# Altium schematic symbol library Schlib1.SchLib: 46 symbols
Pins are listed as number, name and electrical type; pins without a type are passive.

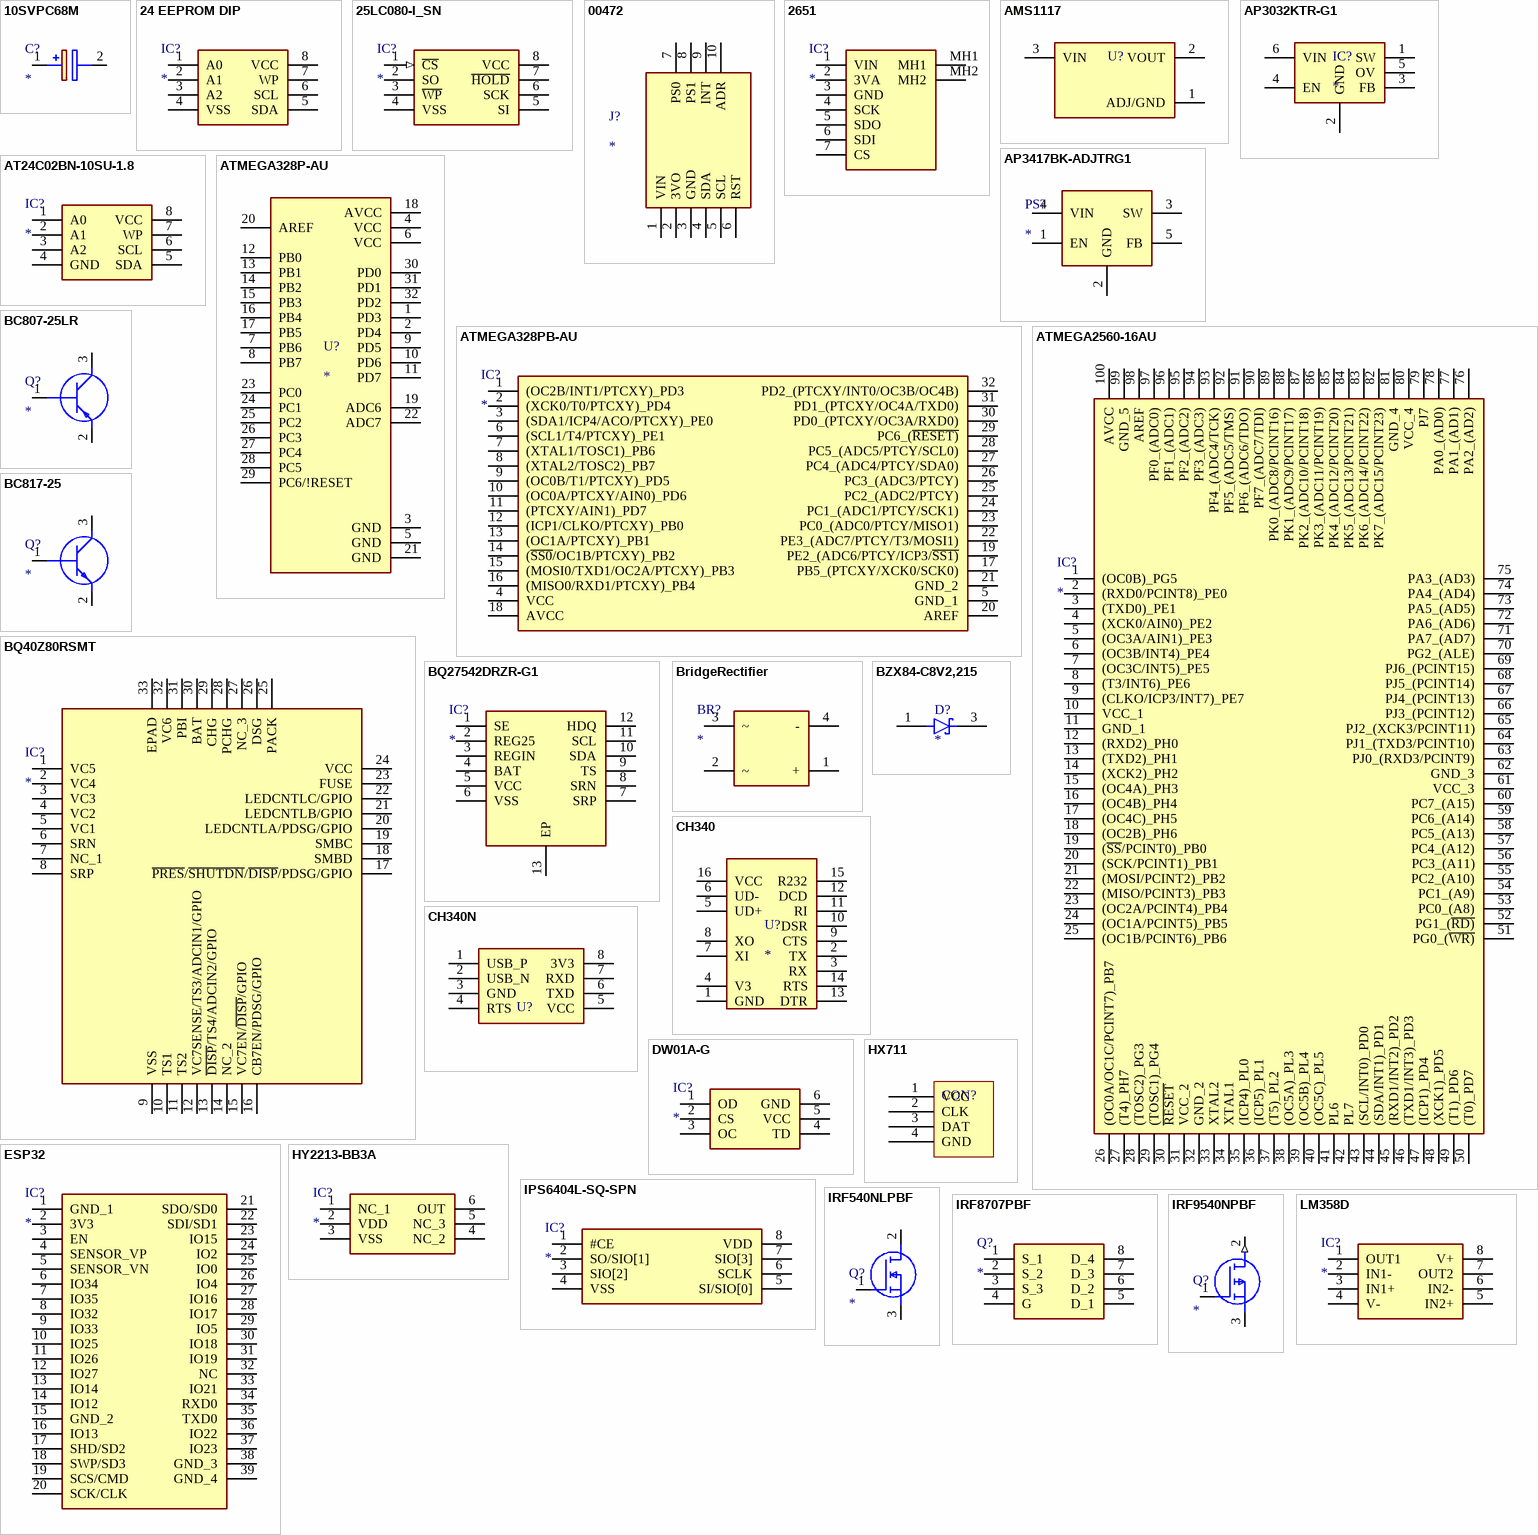
[diagram p0: symbols 10SVPC68M to LM358D]

## 10SVPC68M
designator C?
Capacitor Polarised; Manufacturer_Name: Panasonic; Manufacturer_Part_Number: 10SVPC68M; Datasheet Link: http://industrial.panasonic.com/cdbs/www-data/pdf/AAB8000/AAB8000C256.pdf; Height: 6mm; Mouser Part Number: 667-10SVPC68M; Mouser Price/Stock: https://www.mouser.com/Search/Refine.aspx?Keyword=667-10SVPC68M
footprint 16SVF82M
pins: 1 +, 2 -

## 24 EEPROM DIP
designator IC?
Integrated Circuit; Manufacturer_Name: Microchip; Manufacturer_Part_Number: 24AA025-I/P; Datasheet Link: http://ww1.microchip.com/downloads/en/DeviceDoc/21210N.pdf; Height: 5.334mm; Mouser Part Number: 579-24AA025-I/P; Mouser Price/Stock: https://www.mouser.com/Search/Refine.aspx?Keyword=579-24AA025-I%2FP; Arrow Part Number: 24AA025-I/P; Arrow Price/Stock: https://www.arrow.com/en/products/24aa025-ip/microchip-technology
footprint DIP 24 EEPROM
pins: 1 A0, 2 A1, 3 A2, 4 VSS, 5 SDA, 6 SCL, 7 WP, 8 VCC

## 25LC080-I_SN
designator IC?
Integrated Circuit; Manufacturer_Name: Microchip; Manufacturer_Part_Number: 25LC080-I/SN; Datasheet Link: https://datasheet.datasheetarchive.com/originals/distributors/Datasheets-18/DSA-358581.pdf; Height: 1.75mm; Mouser Part Number: 579-25LC080-I/SN; Mouser Price/Stock: https://www.mouser.com/Search/Refine.aspx?Keyword=579-25LC080-I%2FSN; Arrow Part Number: 25LC080-I/SN; Arrow Price/Stock: https://www.arrow.com/en/products/25lc080-isn/microchip-technology?region=europe
footprint SOIC127P600X175-8N
pins: 1 ~{CS} (in), 2 SO, 3 ~{WP}, 4 VSS (power), 5 SI, 6 SCK, 7 ~{HOLD}, 8 VCC (power)

## 00472
designator J?
Connector; Manufacturer_Name: Adafruit; Manufacturer_Part_Number: 00472; Datasheet Link: https://learn.adafruit.com/downloads/pdf/adafruit-bno055-absolute-orientation-sensor.pdf; Height: 2mm
footprint 00472
pins: 1 VIN, 2 3VO, 3 GND, 4 SDA, 5 SCL, 6 RST, 7 PS0, 8 PS1, 9 INT, 10 ADR

## 2651
designator IC?
Integrated Circuit; Manufacturer_Name: Adafruit; Manufacturer_Part_Number: 2651; Datasheet Link: https://learn.adafruit.com/downloads/pdf/adafruit-bmp280-barometric-pressure-plus-temperature-sensor-breakout.pdf; Height: 3mm; Mouser Part Number: 485-2651; Mouser Price/Stock: https://www.mouser.co.uk/ProductDetail/Adafruit/2651?qs=GP1oqPAcsMG0HimHwVa7aA%3D%3D; Arrow Part Number: 2651; Arrow Price/Stock: https://www.arrow.com/en/products/2651/adafruit-industries?region=nac
footprint 2651
pins: 1 VIN, 2 3VA, 3 GND, 4 SCK, 5 SDO, 6 SDI, 7 CS, MH1, MH2

## AMS1117
designator U?
MP: AMS1117; MF: Seeed Technology; Availability: Unavailable; SnapEDA_Link: https://www.snapeda.com/parts/AMS1117/Seeed%20Technology%20Co.%2C%20Ltd/view-part/184428/?ref=snap; Price: None; Value: *; Package: SOT-223 Seeed Technology
footprint AMS1117_SOT223
pins: 1 ADJ/GND (power), 2 VOUT, 3 VIN

## AP3032KTR-G1
designator IC?
Integrated Circuit; Manufacturer_Name: Diodes Inc.; Manufacturer_Part_Number: AP3032KTR-G1; Datasheet Link: https://www.diodes.com/assets/Datasheets/AP3032.pdf; Height: 1.45mm; Mouser Part Number: 621-AP3032KTR-G1; Mouser Price/Stock: https://www.mouser.co.uk/ProductDetail/Diodes-Incorporated/AP3032KTR-G1?qs=x6A8l6qLYDBKP%252BiASla%2FZw%3D%3D; Arrow Part Number: AP3032KTR-G1; Arrow Price/Stock: https://www.arrow.com/en/products/ap3032ktr-g1/diodes-incorporated?region=nac
footprint SOT95P280X145-6N
pins: 1 SW, 2 GND, 3 FB, 4 EN, 5 OV, 6 VIN

## AP3417BK-ADJTRG1
designator PS?
Power Supply; Manufacturer_Name: Diodes Inc.; Manufacturer_Part_Number: AP3417BK-ADJTRG1; Datasheet Link: https://www.diodes.com/assets/Datasheets/AP3417B.pdf; Height: 1.45mm; Mouser Part Number: 621-AP3417BK-ADJTRG1; Mouser Price/Stock: https://www.mouser.com/Search/Refine.aspx?Keyword=621-AP3417BK-ADJTRG1; Arrow Part Number: AP3417BK-ADJTRG1; Arrow Price/Stock: https://www.arrow.com/en/products/ap3417bk-adjtrg1/diodes-incorporated
footprint SOT BUCK
pins: 1 EN, 2 GND, 3 SW, 4 VIN, 5 FB

## AT24C02BN-10SU-1.8
designator IC?
Integrated Circuit; Manufacturer_Name: Microchip; Manufacturer_Part_Number: AT24C02BN-10SU-1.8; Datasheet Link: https://ww1.microchip.com/downloads/en/DeviceDoc/doc5126.pdf; Height: 1.75mm; Mouser Part Number: N/A; Mouser Price/Stock: https://www.mouser.com/Search/Refine.aspx?Keyword=N%2FA
footprint SOIC127P600X175-8N
pins: 1 A0, 2 A1, 3 A2, 4 GND, 5 SDA, 6 SCL, 7 WP, 8 VCC

## ATMEGA328P-AU
designator U?
MP: ATMEGA328P-AU; MF: Microchip Technology; Availability: Unavailable; Package: TQFP-32 Microchip Technology; Value: *; Price: None; SnapEDA_Link: https://www.snapeda.com/parts/ATMEGA328P-AU/Microchip/view-part/4593405/?ref=snap
footprint 328p-au
pins: 1 PD3, 2 PD4, 3 GND (power), 4 VCC (power), 5 GND (power), 6 VCC (power), 7 PB6, 8 PB7, 9 PD5, 10 PD6, 11 PD7, 12 PB0, 13 PB1, 14 PB2, 15 PB3, 16 PB4, 17 PB5, 18 AVCC (power), 19 ADC6, 20 AREF, 21 GND (power), 22 ADC7, 23 PC0, 24 PC1, 25 PC2, 26 PC3, 27 PC4, 28 PC5, 29 PC6/!RESET, 30 PD0, 31 PD1, 32 PD2

## ATMEGA328PB-AU
designator IC?
Integrated Circuit; Manufacturer_Name: Microchip; Manufacturer_Part_Number: ATMEGA328PB-AU; Datasheet Link: http://www.farnell.com/datasheets/2014286.pdf; Height: 1.2mm; Mouser Part Number: 556-ATMEGA328PB-AU; Mouser Price/Stock: https://www.mouser.co.uk/ProductDetail/Microchip-Technology-Atmel/ATMEGA328PB-AU?qs=jy4bLUHv09hbFONgGrqPbw%3D%3D; Arrow Part Number: ATMEGA328PB-AU; Arrow Price/Stock: https://www.arrow.com/en/products/atmega328pb-au/microchip-technology
footprint 328PB-AU
pins: 1 (OC2B/INT1/PTCXY)_PD3, 2 (XCK0/T0/PTCXY)_PD4, 3 (SDA1/ICP4/ACO/PTCXY)_PE0, 4 VCC, 5 GND_1, 6 (SCL1/T4/PTCXY)_PE1, 7 (XTAL1/TOSC1)_PB6, 8 (XTAL2/TOSC2)_PB7, 9 (OC0B/T1/PTCXY)_PD5, 10 (OC0A/PTCXY/AIN0)_PD6, 11 (PTCXY/AIN1)_PD7, 12 (ICP1/CLKO/PTCXY)_PB0, 13 (OC1A/PTCXY)_PB1, 14 (~{SS0}/OC1B/PTCXY)_PB2, 15 (MOSI0/TXD1/OC2A/PTCXY)_PB3, 16 (MISO0/RXD1/PTCXY)_PB4, 17 PB5_(PTCXY/XCK0/SCK0), 18 AVCC, 19 PE2_(ADC6/PTCY/ICP3/~{SS1)}, 20 AREF, 21 GND_2, 22 PE3_(ADC7/PTCY/T3/MOSI1), 23 PC0_(ADC0/PTCY/MISO1), 24 PC1_(ADC1/PTCY/SCK1), 25 PC2_(ADC2/PTCY), 26 PC3_(ADC3/PTCY), 27 PC4_(ADC4/PTCY/SDA0), 28 PC5_(ADC5/PTCY/SCL0), 29 PC6_(~{RESET)}, 30 PD0_(PTCXY/OC3A/RXD0), 31 PD1_(PTCXY/OC4A/TXD0), 32 PD2_(PTCXY/INT0/OC3B/OC4B)

## ATMEGA2560-16AU
designator IC?
Integrated Circuit; Manufacturer_Name: Microchip; Manufacturer_Part_Number: ATMEGA2560-16AU; Datasheet Link: http://docs-emea.rs-online.com/webdocs/0d68/0900766b80d68730.pdf; Height: 1.2mm; Mouser Part Number: 556-ATMEGA2560-16AU; Mouser Price/Stock: https://www.mouser.co.uk/ProductDetail/Microchip-Technology-Atmel/ATMEGA2560-16AU?qs=aqrrBurbvGciYmlAokFS0w%3D%3D; Arrow Part Number: ATMEGA2560-16AU; Arrow Price/Stock: https://www.arrow.com/en/products/atmega2560-16au/microchip-technology
footprint ATMEGA2560
pins: 1 (OC0B)_PG5, 2 (RXD0/PCINT8)_PE0, 3 (TXD0)_PE1, 4 (XCK0/AIN0)_PE2, 5 (OC3A/AIN1)_PE3, 6 (OC3B/INT4)_PE4, 7 (OC3C/INT5)_PE5, 8 (T3/INT6)_PE6, 9 (CLKO/ICP3/INT7)_PE7, 10 VCC_1, 11 GND_1, 12 (RXD2)_PH0, 13 (TXD2)_PH1, 14 (XCK2)_PH2, 15 (OC4A)_PH3, 16 (OC4B)_PH4, 17 (OC4C)_PH5, 18 (OC2B)_PH6, 19 (~{SS}/PCINT0)_PB0, 20 (SCK/PCINT1)_PB1, 21 (MOSI/PCINT2)_PB2, 22 (MISO/PCINT3)_PB3, 23 (OC2A/PCINT4)_PB4, 24 (OC1A/PCINT5)_PB5, 25 (OC1B/PCINT6)_PB6, 26 (OC0A/OC1C/PCINT7)_PB7, 27 (T4)_PH7, 28 (TOSC2)_PG3, 29 (TOSC1)_PG4, 30 ~{RESET}, 31 VCC_2, 32 GND_2, 33 XTAL2, 34 XTAL1, 35 (ICP4)_PL0, 36 (ICP5)_PL1, 37 (T5)_PL2, 38 (OC5A)_PL3, 39 (OC5B)_PL4, 40 (OC5C)_PL5, 41 PL6, 42 PL7, 43 (SCL/INT0)_PD0, 44 (SDA/INT1)_PD1, 45 (RXD1/INT2)_PD2, 46 (TXD1/INT3)_PD3, 47 (ICP1)_PD4, 48 (XCK1)_PD5, 49 (T1)_PD6, 50 (T0)_PD7, 51 PG0_(~{WR)}, 52 PG1_(~{RD)}, 53 PC0_(A8), 54 PC1_(A9), 55 PC2_(A10), 56 PC3_(A11), 57 PC4_(A12), 58 PC5_(A13), 59 PC6_(A14), 60 PC7_(A15), 61 VCC_3, 62 GND_3, 63 PJ0_(RXD3/PCINT9), 64 PJ1_(TXD3/PCINT10), 65 PJ2_(XCK3/PCINT11), 66 PJ3_(PCINT12), 67 PJ4_(PCINT13), 68 PJ5_(PCINT14), 69 PJ6_(PCINT15), 70 PG2_(ALE), 71 PA7_(AD7), 72 PA6_(AD6), 73 PA5_(AD5), 74 PA4_(AD4), 75 PA3_(AD3), 76 PA2_(AD2), 77 PA1_(AD1), 78 PA0_(AD0), 79 PJ7, 80 VCC_4, 81 GND_4, 82 PK7_(ADC15/PCINT23), 83 PK6_(ADC14/PCINT22), 84 PK5_(ADC13/PCINT21), 85 PK4_(ADC12/PCINT20), 86 PK3_(ADC11/PCINT19), 87 PK2_(ADC10/PCINT18), 88 PK1_(ADC9/PCINT17), 89 PK0_(ADC8/PCINT16), 90 PF7_(ADC7/TDI), 91 PF6_(ADC6/TDO), 92 PF5_(ADC5/TMS), 93 PF4_(ADC4/TCK), 94 PF3_(ADC3), 95 PF2_(ADC2), 96 PF1_(ADC1), 97 PF0_(ADC0), 98 AREF, 99 GND_5, 100 AVCC

## BC807-25LR
designator Q?
Transistor BJT PNP; Manufacturer_Name: Nexperia; Manufacturer_Part_Number: BC807-25LR; Datasheet Link: https://assets.nexperia.com/documents/data-sheet/BC807L_BC807LW.pdf; Height: 1.1mm; Mouser Part Number: 771-BC807-25LR; Mouser Price/Stock: https://www.mouser.co.uk/ProductDetail/Nexperia/BC807-25LR?qs=f9yNj16SXrKCSYJnQQBFCw%3D%3D
footprint BC807
pins: 1 B, 2 E, 3 C

## BC817-25
designator Q?
Transistor BJT NPN; Manufacturer_Name: Nexperia; Manufacturer_Part_Number: BC817-25; Datasheet Link: https://assets.nexperia.com/documents/data-sheet/BC817_BC817W_BC337.pdf; Height: 1.1mm; Mouser Part Number: N/A; Mouser Price/Stock: https://www.mouser.com/Search/Refine.aspx?Keyword=N%2FA
footprint BC817
pins: 1 B, 2 E, 3 C

## BQ40Z80RSMT
designator IC?
Integrated Circuit; Manufacturer_Name: Texas Instruments; Manufacturer_Part_Number: BQ40Z80RSMT; Datasheet Link: http://www.ti.com/lit/gpn/BQ40Z80; Height: 1mm; Mouser Part Number: 595-BQ40Z80RSMT; Mouser Price/Stock: https://www.mouser.co.uk/ProductDetail/Texas-Instruments/BQ40Z80RSMT?qs=%252BEew9%252B0nqrDHO6amwB5XZw%3D%3D; Arrow Part Number: BQ40Z80RSMT; Arrow Price/Stock: https://www.arrow.com/en/products/bq40z80rsmt/texas-instruments?region=nac
footprint QFN40P400X400X100-33N-D
pins: 1 VC5, 2 VC4, 3 VC3, 4 VC2, 5 VC1, 6 SRN, 7 NC_1, 8 SRP, 9 VSS, 10 TS1, 11 TS2, 12 VC7SENSE/TS3/ADCIN1/GPIO, 13 ~{DISP}/TS4/ADCIN2/GPIO, 14 NC_2, 15 VC7EN/~{DISP}/GPIO, 16 CB7EN/PDSG/GPIO, 17 ~{PRES}/~{SHUTDN}/~{DISP}/PDSG/GPIO, 18 SMBD, 19 SMBC, 20 LEDCNTLA/PDSG/GPIO, 21 LEDCNTLB/GPIO, 22 LEDCNTLC/GPIO, 23 FUSE, 24 VCC, 25 PACK, 26 DSG, 27 NC_3, 28 PCHG, 29 CHG, 30 BAT, 31 PBI, 32 VC6, 33 EPAD

## BQ27542DRZR-G1
designator IC?
Integrated Circuit; Manufacturer_Name: Texas Instruments; Manufacturer_Part_Number: BQ27542DRZR-G1; Datasheet Link: http://www.ti.com/lit/gpn/bq27542-g1; Height: 1mm; Mouser Part Number: 595-BQ27542DRZR-G1; Mouser Price/Stock: https://www.mouser.co.uk/ProductDetail/Texas-Instruments/BQ27542DRZR-G1?qs=zEQ6BYqA5vEwuT%2FikTzgQw%3D%3D; Arrow Part Number: BQ27542DRZR-G1; Arrow Price/Stock: https://www.arrow.com/en/products/bq27542drzr-g1/texas-instruments
footprint SON40P400X250X100-13N-D
pins: 1 SE, 2 REG25, 3 REGIN, 4 BAT, 5 VCC, 6 VSS, 7 SRP, 8 SRN, 9 TS, 10 SDA, 11 SCL, 12 HDQ, 13 EP

## BridgeRectifier
designator BR?
Bridge Rectifier; Manufacturer_Name: Comchip Technology; Manufacturer_Part_Number: GBU1502-G; Datasheet Link: http://www.comchiptech.com/admin/files/product/GBU10005-G%20Thru401984.%20GBU1010-G%20RevC.pdf; Height: 19.1mm; Mouser Part Number: 750-GBU1502-G; Mouser Price/Stock: https://www.mouser.com/Search/Refine.aspx?Keyword=750-GBU1502-G
footprint GBU15
pins: 1 +, 2 ~, 3 ~, 4 -

## BZX84-C8V2,215
designator D?
Diode; Manufacturer_Name: Nexperia; Manufacturer_Part_Number: BZX84-C8V2,215; Description: Low-power voltage regulator diodes in a small SOT23 (TO-236AB) Surface-Mounted Device (SMD) plastic package. The diodes are available in the normalized E24 +/-1 % (BZX84-A); Datasheet Link: https://assets.nexperia.com/documents/data-sheet/BZX84_SER.pdf; Height: 1.1mm; Mouser Part Number: 771-BZX84-C8V2-T/R; Mouser Price/Stock: https://www.mouser.co.uk/ProductDetail/Nexperia/BZX84-C8V2215?qs=me8TqzrmIYXZLkpOrQ6uhQ%3D%3D; Arrow Part Number: BZX84-C8V2,215; Arrow Price/Stock: https://www.arrow.com/en/products/bzx84-c8v2215/nexperia?region=europe
footprint SOT95P230X110-3N
pins: 1 A, 3 K

## CH340
designator U?
MF: Eaton; MP: CH340; Availability: Unavailable; Price: None; Package: None; Value: *; SnapEDA_Link: https://www.snapeda.com/parts/CH340/Eaton/view-part/4701946/?ref=snap
footprint ch340g-SOIC16
pins: 1 GND (power), 2 TX, 3 RX, 4 V3, 5 UD+, 6 UD-, 7 XI, 8 XO, 9 CTS, 10 DSR, 11 RI, 12 DCD, 13 DTR, 14 RTS, 15 R232, 16 VCC

## CH340N
designator U?
footprint SOIC127P600X175-8N
pins: 1 USB_P, 2 USB_N, 3 GND, 4 RTS, 5 VCC, 6 TXD, 7 RXD, 8 3V3

## DW01A-G
designator IC?
Integrated Circuit; Manufacturer_Name: Fortune Semiconductor Corporation; Manufacturer_Part_Number: DW01A-G; Datasheet Link: http://acoptex.com/uploads/DW01A.pdf; Height: 1.35mm
footprint DW01a
pins: 1 OD, 2 CS, 3 OC, 4 TD, 5 VCC, 6 GND

## ESP32
designator IC?
Integrated Circuit; Manufacturer_Name: Espressif Systems; Manufacturer_Part_Number: ESP-WROOM-32D; Datasheet Link: https://componentsearchengine.com/Datasheets/1/ESP-WROOM-32D.pdf; Height: 3.2mm; Mouser Part Number: 356-ESP-WROOM-32D; Mouser Price/Stock: https://www.mouser.co.uk/ProductDetail/Espressif-Systems/ESP-WROOM-32D?qs=MLItCLRbWsyWVKgdQMcFuQ%3D%3D
footprint ESP32
pins: 1 GND_1, 2 3V3, 3 EN, 4 SENSOR_VP, 5 SENSOR_VN, 6 IO34, 7 IO35, 8 IO32, 9 IO33, 10 IO25, 11 IO26, 12 IO27, 13 IO14, 14 IO12, 15 GND_2, 16 IO13, 17 SHD/SD2, 18 SWP/SD3, 19 SCS/CMD, 20 SCK/CLK, 21 SDO/SD0, 22 SDI/SD1, 23 IO15, 24 IO2, 25 IO0, 26 IO4, 27 IO16, 28 IO17, 29 IO5, 30 IO18, 31 IO19, 32 NC, 33 IO21, 34 RXD0, 35 TXD0, 36 IO22, 37 IO23, 38 GND_3, 39 GND_4

## HX711
designator CON?
footprint HX711
pins: 1 VCC, 2 CLK, 3 DAT, 4 GND

## HY2213-BB3A
designator IC?
Integrated Circuit; Manufacturer_Name: Hycon; Manufacturer_Part_Number: HY2213-BB3A; Datasheet Link: https://datasheet.lcsc.com/szlcsc/HYCON-Tech-HY2213-BB3A_C113632.pdf; Height: 1.4mm
footprint HY2213
pins: 1 NC_1, 2 VDD, 3 VSS, 4 NC_2, 5 NC_3, 6 OUT

## IPS6404L-SQ-SPN
designator IC?
Integrated Circuit; Manufacturer_Name: Electrodragon; Manufacturer_Part_Number: IPS6404L-SQ-SPN; Datasheet Link: https://github.com/Edragon/Datasheet/blob/master/IPUS/IPUS%2064Mbit.pdf; Height: 1.75mm
footprint SOIC127P600X175-8N
pins: 1 #CE, 2 SO/SIO[1], 3 SIO[2], 4 VSS, 5 SI/SIO[0], 6 SCLK, 7 SIO[3], 8 VDD

## IRF540NLPBF
designator Q?
MOSFET (N-Channel); Manufacturer_Name: Infineon; Manufacturer_Part_Number: IRF540NLPBF; Datasheet Link: https://www.infineon.com/dgdl/irf540nspbf.pdf?fileId=5546d462533600a4015355e3a72819a3; Height: 4.83mm; Mouser Part Number: 942-IRF540NLPBF; Mouser Price/Stock: https://www.mouser.co.uk/ProductDetail/Infineon-IR/IRF540NLPBF?qs=9%252BKlkBgLFf0FQw5bWQHS0A%3D%3D; Arrow Part Number: IRF540NLPBF; Arrow Price/Stock: https://www.arrow.com/en/products/irf540nlpbf/infineon-technologies-ag?region=europe
footprint TO254P483X1016X1501-3P
pins: 1 G, 2 D, 3 S

## IRF8707PBF
designator Q?
MOSFET (N-Channel); Manufacturer_Name: Infineon; Manufacturer_Part_Number: IRF8707PBF; Datasheet Link: https://www.infineon.com/dgdl/irf8707pbf.pdf?fileId=5546d462533600a40153560d57f81d6b; Height: 1.75mm; Mouser Part Number: 942-IRF8707PBF; Mouser Price/Stock: https://www.mouser.com/Search/Refine.aspx?Keyword=942-IRF8707PBF
footprint SOIC127P600X175-8N
pins: 1 S_1, 2 S_2, 3 S_3, 4 G, 5 D_1, 6 D_2, 7 D_3, 8 D_4

## IRF9540NPBF
designator Q?
MOSFET (P-Channel); Manufacturer_Name: Infineon; Manufacturer_Part_Number: IRF9540NPBF; Datasheet Link: https://www.infineon.com/dgdl/irf9540npbf.pdf?fileId=5546d462533600a401535611cfa21dc8; Height: 4.69mm; Mouser Part Number: 942-IRF9540NPBF; Mouser Price/Stock: https://www.mouser.co.uk/ProductDetail/Infineon-IR/IRF9540NPBF?qs=9%252BKlkBgLFf0vnuA8mxUPtw%3D%3D; Arrow Part Number: IRF9540NPBF; Arrow Price/Stock: https://www.arrow.com/en/products/irf9540npbf/infineon-technologies-ag?region=nac
footprint TO254P469X1042X1967-3P
pins: 1 G (power), 2 D (out), 3 S (power)

## LM358D
designator IC?
Integrated Circuit; Manufacturer_Name: Texas Instruments; Manufacturer_Part_Number: LM358D; Datasheet Link: http://www.ti.com/lit/ds/symlink/lm358.pdf; Height: 1.75mm; Mouser Part Number: 595-LM358D; Mouser Price/Stock: https://www.mouser.co.uk/ProductDetail/Texas-Instruments/LM358D?qs=X1HXWTtiZ0RJBM%2FvBfVo8g%3D%3D; Arrow Part Number: LM358D; Arrow Price/Stock: https://www.arrow.com/en/products/lm358d/texas-instruments?region=nac
footprint SOIC127P600X175-8N
pins: 1 OUT1, 2 IN1-, 3 IN1+, 4 V-, 5 IN2+, 6 IN2-, 7 OUT2, 8 V+

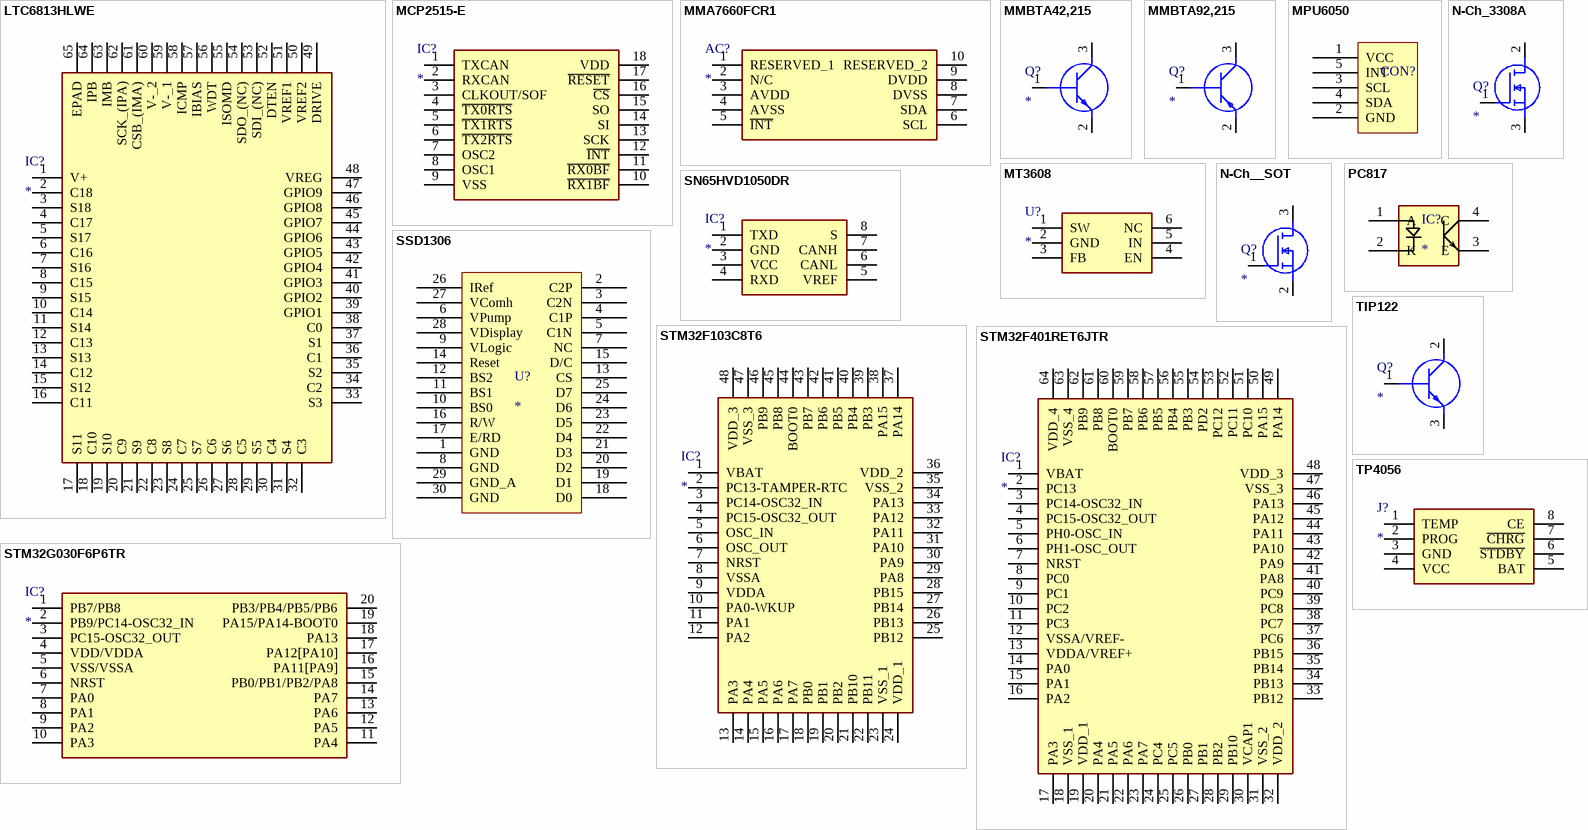
[diagram p1: symbols LTC6813HLWE to TP4056]

## LTC6813HLWE
designator IC?
Manufacturer_Name: Linear Technology; Manufacturer_Part_Number: LTC6813HLWE-1#3ZZPBF; Datasheet Link: https://www.analog.com/media/en/technical-documentation/data-sheets/LTC6813-1.pdf; Height: 1.6mm; Mouser Part Number: 584-6813HLWE13ZZPBF; Mouser Price/Stock: https://www.mouser.co.uk/ProductDetail/Analog-Devices-Linear-Technology/LTC6813HLWE-13ZZPBF?qs=lYGu3FyN48e3Qu9IYnRGuQ%3D%3D; Arrow Part Number: LTC6813HLWE-1#3ZZPBF; Arrow Price/Stock: https://www.arrow.com/en/products/ltc6813hlwe-13zzpbf/linear-technology
footprint LTC6813HLWE
pins: 1 V+, 2 C18, 3 S18, 4 C17, 5 S17, 6 C16, 7 S16, 8 C15, 9 S15, 10 C14, 11 S14, 12 C13, 13 S13, 14 C12, 15 S12, 16 C11, 17 S11, 18 C10, 19 S10, 20 C9, 21 S9, 22 C8, 23 S8, 24 C7, 25 S7, 26 C6, 27 S6, 28 C5, 29 S5, 30 C4, 31 S4, 32 C3, 33 S3, 34 C2, 35 S2, 36 C1, 37 S1, 38 C0, 39 GPIO1, 40 GPIO2, 41 GPIO3, 42 GPIO4, 43 GPIO5, 44 GPIO6, 45 GPIO7, 46 GPIO8, 47 GPIO9, 48 VREG, 49 DRIVE, 50 VREF2, 51 VREF1, 52 DTEN, 53 SDI_(NC), 54 SDO_(NC), 55 ISOMD, 56 WDT, 57 IBIAS, 58 ICMP, 59 V-_1, 60 V-_2, 61 CSB_(IMA), 62 SCK_(IPA), 63 IMB, 64 IPB, 65 EPAD

## MCP2515-E
designator IC?
Integrated Circuit; Manufacturer_Name: Microchip; Manufacturer_Part_Number: MCP2515-E/SO; Datasheet Link: http://ww1.microchip.com/downloads/en/DeviceDoc/21801G.pdf; Height: 2.65mm; Mouser Part Number: 579-MCP2515-E/SO; Mouser Price/Stock: https://www.mouser.co.uk/ProductDetail/Microchip-Technology/MCP2515-E-SO?qs=y1t9dHv1DsLUSXaU9a01fg%3D%3D; Arrow Part Number: MCP2515-E/SO; Arrow Price/Stock: https://www.arrow.com/en/products/mcp2515-eso/microchip-technology
footprint MCP2515
pins: 1 TXCAN, 2 RXCAN, 3 CLKOUT/SOF, 4 ~{TX0RTS}, 5 ~{TX1RTS}, 6 ~{TX2RTS}, 7 OSC2, 8 OSC1, 9 VSS, 10 ~{RX1BF}, 11 ~{RX0BF}, 12 ~{INT}, 13 SCK, 14 SI, 15 SO, 16 ~{CS}, 17 ~{RESET}, 18 VDD

## MMA7660FCR1
designator AC?
Accelerometer; Manufacturer_Name: NXP; Manufacturer_Part_Number: MMA7660FCR1; Datasheet Link: http://www.nxp.com/docs/en/data-sheet/MMA7660FC.pdf; Height: 1mm; Mouser Part Number: 841-MMA7660FCR1; Mouser Price/Stock: https://www.mouser.com/Search/Refine.aspx?Keyword=841-MMA7660FCR1; Arrow Part Number: MMA7660FCR1; Arrow Price/Stock: https://www.arrow.com/en/products/mma7660fcr1/nxp-semiconductors
footprint SON50P300X300X100-10N-D
pins: 1 RESERVED_1, 2 N/C, 3 AVDD, 4 AVSS, 5 ~{INT}, 6 SCL, 7 SDA, 8 DVSS, 9 DVDD, 10 RESERVED_2

## MMBTA42,215
designator Q?
Transistor BJT NPN; Manufacturer_Name: Nexperia; Manufacturer_Part_Number: MMBTA42,215; Datasheet Link: http://assets.nexperia.com/documents/data-sheet/MMBTA42.pdf; Height: 1.1mm; Mouser Part Number: 771-MMBTA42215; Mouser Price/Stock: https://www.mouser.co.uk/ProductDetail/Nexperia/MMBTA42215?qs=LOCUfHb8d9tIN%2FqE%252BOes3A%3D%3D; Arrow Part Number: MMBTA42,215; Arrow Price/Stock: https://www.arrow.com/en/products/mmbta42215/nexperia
footprint SOT95P230X110-3N
pins: 1 B, 2 E, 3 C

## MMBTA92,215
designator Q?
Transistor BJT PNP; Manufacturer_Name: Nexperia; Manufacturer_Part_Number: MMBTA92,215; Datasheet Link: http://assets.nexperia.com/documents/data-sheet/MMBTA92.pdf; Height: 1.1mm; Mouser Part Number: 771-MMBTA92215; Mouser Price/Stock: https://www.mouser.co.uk/ProductDetail/Nexperia/MMBTA92215?qs=LOCUfHb8d9sekw3BvUrXKw%3D%3D; Arrow Part Number: MMBTA92,215; Arrow Price/Stock: https://www.arrow.com/en/products/mmbta92215/nexperia?region=nac
footprint SOT95P230X110-3N
pins: 1 B, 2 E, 3 C

## MPU6050
designator CON?
footprint MPU6050
pins: 1 VCC, 2 GND, 3 SCL, 4 SDA, 5 INT

## MT3608
designator U?
Undefined or Miscellaneous; Manufacturer_Name: Aerosemi; Manufacturer_Part_Number: MT3608; Datasheet Link: https://www.olimex.com/Products/Breadboarding/BB-PWR-3608/resources/MT3608.pdf; Height: 1.45mm
footprint MT3608
pins: 1 SW, 2 GND, 3 FB, 4 EN, 5 IN, 6 NC

## N-Ch_3308A
designator Q?
MOSFET (N-Channel); Manufacturer_Name: Infineon; Manufacturer_Part_Number: IRLZ44NSTRLPBF; Datasheet Link: https://www.infineon.com/dgdl/irlz44nspbf.pdf?fileId=5546d462533600a40153567221272727; Height: 4.83mm; Mouser Part Number: 942-IRLZ44NSTRLPBF; Mouser Price/Stock: https://www.mouser.co.uk/ProductDetail/Infineon-IR/IRLZ44NSTRLPBF/?qs=9%252BKlkBgLFf1LijFJvUznEg%3D%3D; Arrow Part Number: IRLZ44NSTRLPBF; Arrow Price/Stock: https://www.arrow.com/en/products/irlz44nstrlpbf/infineon-technologies-ag
footprint DPAK_3308
pins: 1 G, 2 D, 3 S

## N-Ch__SOT
designator Q?
MOSFET (N-Channel); Manufacturer_Name: Infineon; Manufacturer_Part_Number: IRLZ44NSTRLPBF; Datasheet Link: https://www.infineon.com/dgdl/irlz44nspbf.pdf?fileId=5546d462533600a40153567221272727; Height: 4.83mm; Mouser Part Number: 942-IRLZ44NSTRLPBF; Mouser Price/Stock: https://www.mouser.co.uk/ProductDetail/Infineon-IR/IRLZ44NSTRLPBF/?qs=9%252BKlkBgLFf1LijFJvUznEg%3D%3D; Arrow Part Number: IRLZ44NSTRLPBF; Arrow Price/Stock: https://www.arrow.com/en/products/irlz44nstrlpbf/infineon-technologies-ag
footprint NCH_SOT
pins: 1 G, 2 S, 3 D

## PC817
designator IC?
Integrated Circuit; Manufacturer_Name: Galaxy; Manufacturer_Part_Number: PC817; Datasheet Link: http://www.gmesemi.com/KUpload/product/PC/PC817(G).pdf; Height: 5mm
footprint PC817
pins: 1 A, 2 K, 3 E, 4 C

## SN65HVD1050DR
designator IC?
Integrated Circuit; Manufacturer_Name: Texas Instruments; Manufacturer_Part_Number: SN65HVD1050DR; Datasheet Link: https://www.ti.com/lit/ds/symlink/sn65hvd1050.pdf?ts=1618896978538&ref_url=https%253A%252F%252Fwww.google.com%252F; Height: 1.75mm; Mouser Part Number: 595-SN65HVD1050DR; Mouser Price/Stock: https://www.mouser.co.uk/ProductDetail/Texas-Instruments/SN65HVD1050DR?qs=QViXGNcIEAt%2FPpTrdx%252Bq7g%3D%3D; Arrow Part Number: SN65HVD1050DR; Arrow Price/Stock: https://www.arrow.com/en/products/sn65hvd1050dr/texas-instruments
footprint SN65HVD1050DR
pins: 1 TXD, 2 GND, 3 VCC, 4 RXD, 5 VREF, 6 CANL, 7 CANH, 8 S

## SSD1306
designator U?
footprint SSD1306_FPC
pins: 1 GND (power), 2 C2P, 3 C2N, 4 C1P, 5 C1N, 6 VPump, 7 NC, 8 GND (power), 9 VLogic, 10 BS0, 11 BS1, 12 BS2, 13 CS, 14 Reset, 15 D/C, 16 R/W, 17 E/RD, 18 D0, 19 D1, 20 D2, 21 D3, 22 D4, 23 D5, 24 D6, 25 D7, 26 IRef, 27 VComh, 28 VDisplay, 29 GND_A (power), 30 GND (power)

## STM32F103C8T6
designator IC?
Integrated Circuit; Manufacturer_Name: STMicroelectronics; Manufacturer_Part_Number: STM32F103CBT6; Datasheet Link: http://www.st.com/st-web-ui/static/active/en/resource/technical/document/datasheet/CD00161566.pdf; Height: 1.6mm; Mouser Part Number: 511-STM32F103CBT6; Mouser Price/Stock: https://www.mouser.co.uk/ProductDetail/STMicroelectronics/STM32F103CBT6?qs=WxFF5lh7QM3goh6GV5Ogig%3D%3D; Arrow Part Number: STM32F103CBT6; Arrow Price/Stock: https://www.arrow.com/en/products/stm32f103cbt6/stmicroelectronics
footprint STM32F103C8T6
pins: 1 VBAT, 2 PC13-TAMPER-RTC, 3 PC14-OSC32_IN, 4 PC15-OSC32_OUT, 5 OSC_IN, 6 OSC_OUT, 7 NRST, 8 VSSA, 9 VDDA, 10 PA0-WKUP, 11 PA1, 12 PA2, 13 PA3, 14 PA4, 15 PA5, 16 PA6, 17 PA7, 18 PB0, 19 PB1, 20 PB2, 21 PB10, 22 PB11, 23 VSS_1, 24 VDD_1, 25 PB12, 26 PB13, 27 PB14, 28 PB15, 29 PA8, 30 PA9, 31 PA10, 32 PA11, 33 PA12, 34 PA13, 35 VSS_2, 36 VDD_2, 37 PA14, 38 PA15, 39 PB3, 40 PB4, 41 PB5, 42 PB6, 43 PB7, 44 BOOT0, 45 PB8, 46 PB9, 47 VSS_3, 48 VDD_3

## STM32F401RET6JTR
designator IC?
Integrated Circuit; Manufacturer_Name: STMicroelectronics; Manufacturer_Part_Number: STM32F401RET6JTR; Datasheet Link: https://componentsearchengine.com/Datasheets/1/STM32F401RET6JTR.pdf; Height: 1.6mm; Mouser Part Number: 511-STM32F401RET6JTR; Mouser Price/Stock: https://www.mouser.co.uk/ProductDetail/STMicroelectronics/STM32F401RET6JTR?qs=u4fy%2FsgLU9NsUyAlfgfZOA%3D%3D; Arrow Part Number: STM32F401RET6JTR; Arrow Price/Stock: https://www.arrow.com/en/products/stm32f401ret6jtr/stmicroelectronics
footprint QFP50P1200X1200X160-64N
pins: 1 VBAT, 2 PC13, 3 PC14-OSC32_IN, 4 PC15-OSC32_OUT, 5 PH0-OSC_IN, 6 PH1-OSC_OUT, 7 NRST, 8 PC0, 9 PC1, 10 PC2, 11 PC3, 12 VSSA/VREF-, 13 VDDA/VREF+, 14 PA0, 15 PA1, 16 PA2, 17 PA3, 18 VSS_1, 19 VDD_1, 20 PA4, 21 PA5, 22 PA6, 23 PA7, 24 PC4, 25 PC5, 26 PB0, 27 PB1, 28 PB2, 29 PB10, 30 VCAP1, 31 VSS_2, 32 VDD_2, 33 PB12, 34 PB13, 35 PB14, 36 PB15, 37 PC6, 38 PC7, 39 PC8, 40 PC9, 41 PA8, 42 PA9, 43 PA10, 44 PA11, 45 PA12, 46 PA13, 47 VSS_3, 48 VDD_3, 49 PA14, 50 PA15, 51 PC10, 52 PC11, 53 PC12, 54 PD2, 55 PB3, 56 PB4, 57 PB5, 58 PB6, 59 PB7, 60 BOOT0, 61 PB8, 62 PB9, 63 VSS_4, 64 VDD_4

## STM32G030F6P6TR
designator IC?
Integrated Circuit; Manufacturer_Name: STMicroelectronics; Manufacturer_Part_Number: STM32G030F6P6TR; Datasheet Link: https://www.st.com/resource/en/datasheet/stm32g030f6.pdf; Height: 1.2mm; Mouser Part Number: 511-STM32G030F6P6TR; Mouser Price/Stock: https://www.mouser.co.uk/ProductDetail/STMicroelectronics/STM32G030F6P6TR?qs=xZ%2FP%252Ba9zWqbCpBN9FNM5kA%3D%3D; Arrow Part Number: STM32G030F6P6TR; Arrow Price/Stock: https://www.arrow.com/en/products/stm32g030f6p6tr/stmicroelectronics?region=nac
footprint CLT34BT6
pins: 1 PB7/PB8, 2 PB9/PC14-OSC32_IN, 3 PC15-OSC32_OUT, 4 VDD/VDDA, 5 VSS/VSSA, 6 NRST, 7 PA0, 8 PA1, 9 PA2, 10 PA3, 11 PA4, 12 PA5, 13 PA6, 14 PA7, 15 PB0/PB1/PB2/PA8, 16 PA11[PA9], 17 PA12[PA10], 18 PA13, 19 PA15/PA14-BOOT0, 20 PB3/PB4/PB5/PB6

## TIP122
designator Q?
Transistor BJT NPN; Manufacturer_Name: STMicroelectronics; Manufacturer_Part_Number: TIP122; Datasheet Link: http://www.st.com/web/en/resource/technical/document/datasheet/CD00000911.pdf; Height: 4.6mm; Mouser Part Number: 511-TIP122; Mouser Price/Stock: https://www.mouser.co.uk/ProductDetail/STMicroelectronics/TIP122/?qs=ljbEvF4DwOPuWPwhe20bIQ%3D%3D; Arrow Part Number: TIP122; Arrow Price/Stock: https://www.arrow.com/en/products/tip122/stmicroelectronics
footprint TIP122
pins: 1 B, 2 C, 3 E

## TP4056
designator J?
Connector; Manufacturer_Name: NanJing Top Power; Manufacturer_Part_Number: TP4056; Datasheet Link: https://dlnmh9ip6v2uc.cloudfront.net/datasheets/Prototyping/TP4056.pdf; Height: 1.75mm
footprint TP4056A
pins: 1 TEMP, 2 PROG, 3 GND, 4 VCC, 5 BAT, 6 ~{STDBY}, 7 ~{CHRG}, 8 CE